# EAGLE library part 6180XX330923_618044330923 (library 618015233821_Eagle_WR-DSUB_rev20a)
WR-DSUB Female High Density Angled PCB Connector w. Hex Screw Kind Properties Gender:Female Type:Angled Insulator Material:PBT Insulator Flammability Rating:UL94 V-0 Color:Black Contact Material:Copper Alloy Contact Plating:Selective Gold Contact Type:Stamped Shielding Material:Steel Shielding Plating:Nickel General Information Operating Temperature:-55 up to +105 °C Electrical Properties Working Voltage:60V (AC) Withstanding Voltage:1000 V (AC) Contact Resistance:30 mΩ <https://www.we-online.com/catalog/media/o33093v209%20Family_WR-DSUB_6180xx330923.jpg> Details see: https://www.we-online.com/catalog/en/DSUB_FEMALE_HIGH_DENSITY_ANGLED_PCB_CONNECTOR_W_HEX_SCREW_6180XX330923/ Updated by Yingchun, Shan 2020-01-14 2020 (C) Würth Elektronik
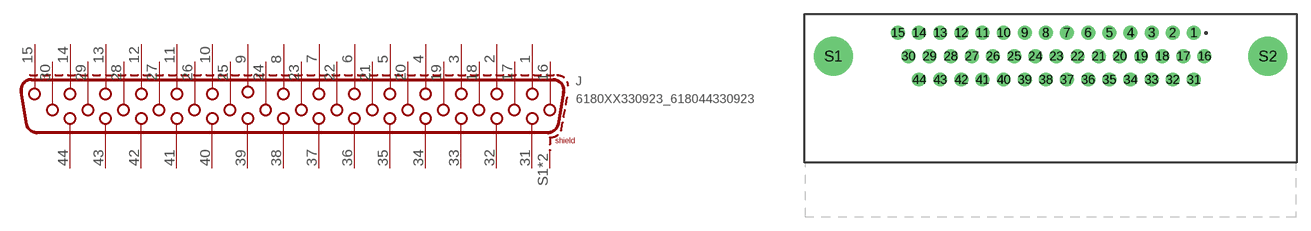
[diagram p54: symbol with the pads of 618044330923; footprint 618044330923]

Designator prefix J

## 6180XX330923_618044330923 (WE-NUMBER: 618044330923)  [618044330923]
1  1
2  2
3  3
4  4
5  5
6  6
7  7
8  8
9  9
10  10
11  11
12  12
13  13
14  14
15  15
16  16
17  17
18  18
19  19
20  20
21  21
22  22
23  23
24  24
25  25
26  26
27  27
28  28
29  29
30  30
31  31
32  32
33  33
34  34
35  35
36  36
37  37
38  38
39  39
40  40
41  41
42  42
43  43
44  44
S1  SHIELD
S2  SHIELD

## Footprint 618044330923 (pad centres in mm)
WR-DSUB Female High Density Angled PCB Connector with Hex Screw, 44 Pins
drill 1: 1 15.52,9.02; 2 13.23,9.02; 3 10.94,9.02; 4 8.65,9.02; 5 6.36,9.02; 6 4.07,9.02; 7 1.78,9.02; 8 -0.51,9.02; 9 -2.8,9.02; 10 -5.09,9.02; 11 -7.38,9.02; 12 -9.67,9.02; 13 -11.96,9.02; 14 -14.25,9.02; 15 -16.54,9.02; 16 16.665,6.48; 17 14.375,6.48; 18 12.085,6.48; 19 9.795,6.48; 20 7.505,6.48; 21 5.215,6.48; 22 2.925,6.48; 23 0.635,6.48; 24 -1.655,6.48; 25 -3.945,6.48; 26 -6.235,6.48; 27 -8.525,6.48; 28 -10.815,6.48; 29 -13.105,6.48; 30 -15.395,6.48; 31 15.52,3.94; 32 13.23,3.94; 33 10.94,3.94; 34 8.65,3.94; 35 6.36,3.94; 36 4.07,3.94; 37 1.78,3.94; 38 -0.51,3.94; 39 -2.8,3.94; 40 -5.09,3.94; 41 -7.38,3.94; 42 -9.67,3.94; 43 -11.96,3.94; 44 -14.25,3.94
drill 3.2: S1 -23.52,6.48; S2 23.52,6.48